# Altium schematic symbol library ASMT-DWBC.SchLib: 1 symbol
Pins are listed as number, name and electrical type; pins without a type are passive.

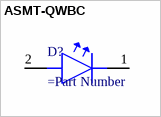
[diagram p0: symbol ASMT-QWBC]

## ASMT-QWBC
designator D?
=Description
pins: 1, 2